# Altium schematic symbol library DAC_TEST.SchLib: 1 symbol
Pins are listed as number, name and electrical type; pins without a type are passive.

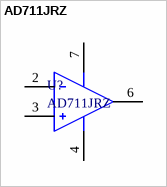
[diagram p0: symbol AD711JRZ]

## AD711JRZ
designator U?
Operational Amplifier
simulation model AD711 (AD711 SPICE Macro-model)
pins: 2 INV, 3 NONINV, 4 VEE, 6 OUT, 7 VCC